# EAGLE library part HIH6130 (library honeywell)
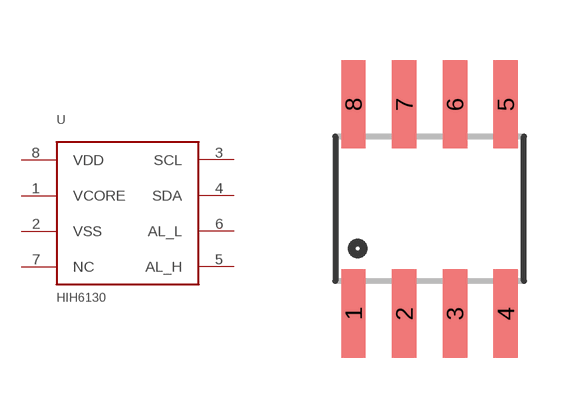
[diagram p0: symbol with the pads of SO08; footprint SO08]

Designator prefix -

## HIH6130  [SO08]
1  VCORE
2  VSS
3  SCL
4  SDA
5  AL_H
6  AL_L
7  NC
8  VDD

## Footprint SO08 (pad centres in mm)
Small Outline Package Fits JEDEC packages (narrow SOIC-8)
smd 0.61 x 2.21: 1 -1.905,-2.616; 2 -0.635,-2.616; 3 0.635,-2.616; 4 1.905,-2.616; 5 1.905,2.616; 6 0.635,2.616; 7 -0.635,2.616; 8 -1.905,2.616